# Altium schematic symbol library TE 284392-3.Schlib: 1 symbol
Pins are listed as number, name and electrical type; pins without a type are passive.

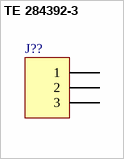
[diagram p0: symbol TE 284392-3]

## TE 284392-3
designator J??
PCB Terminal Blocks, Header, Wire-to-Board, 3 Position, 3.81mm; Manufacturer: TE; Part Number: 284392-3; Value: 284392-3; TYPE: Connectors; ComponentLink1Description: Datasheet link; Mount Type: TRH; RoHS: Y; Supplier 1: Mouser; Supplier Part Number 1: 571-284392-3; Technology: Terminal blocks
footprint 284392-3 (PCB Terminal Blocks, Header, Wire-to-Board, 3 Positions, 3.81mm)
pins: 1, 2, 3